# EAGLE library part PCA9306 (library wearloc)
Texas Instruments PCA9306 I2C Level shifter from 1.2 V to 5.5V Data Sheet <http://www.ti.com/lit/ds/symlink/pca9306.pdf>
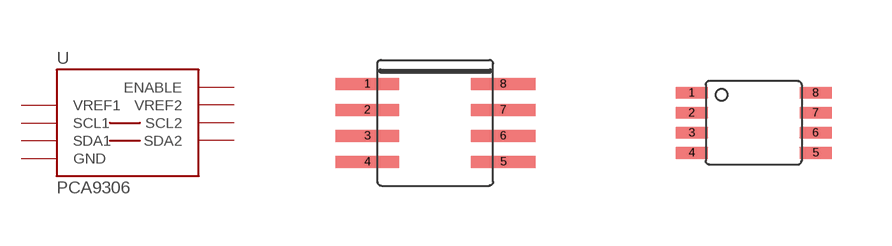
[diagram p0: symbol with the pads of SSOP-8; footprints SSOP-8, VSSOP-8]

Designator prefix U

## PCA9306DCT  [SSOP-8]
1  GND  pwr
2  VREF1
3  SCL1
4  SDA1
5  SDA2
6  SCL2
7  VREF2
8  ENABLE  in

## PCA9306DCU  [VSSOP-8]
Pads as for SSOP-8

## Footprint SSOP-8 (pad centres in mm)
SSOP 8 package from Texas Instruments
smd 1.6 x 0.3: 1 -1.625,0.975; 2 -1.625,0.325; 3 -1.625,-0.325; 4 -1.625,-0.975; 5 1.775,-0.975; 6 1.775,-0.325; 7 1.775,0.325; 8 1.775,0.975

## Footprint VSSOP-8 (pad centres in mm)
VSSOP 8 package from Texas Instruments
smd 0.8 x 0.3: 1 -1.55,0.75; 2 -1.55,0.25; 3 -1.55,-0.25; 4 -1.55,-0.75; 5 1.55,-0.75; 6 1.55,-0.25; 7 1.55,0.25; 8 1.55,0.75